# Altium footprint library 野火_EBF6ULL B1 核心板_PCB封装_AD格式.PcbLib: 18 footprints (part 2 of 2)
Each footprint in its own frame and in the unit in brackets; x right, y up, seen from the top. Pads: shape width x height; smd on the part's side, far side on the other; paste and mask are expansions set on the pad; w line width, h text height; cw(c..) or ccw(c..) is an arc to the next point about the centre after c.
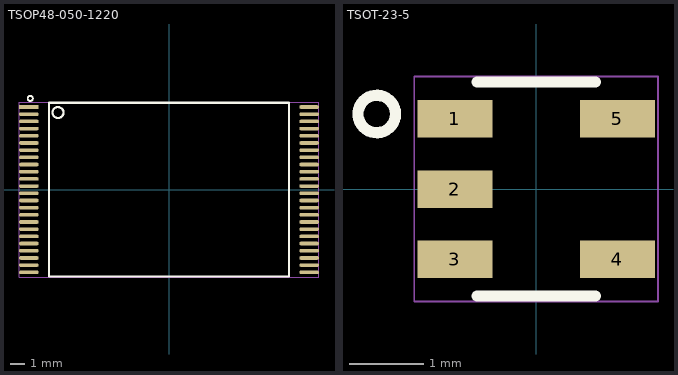
[diagram p1: the footprints below, top view; thin cyan lines are the x and y axes]

## TSOP48-050-1220 [mil]
pads (48):
  rect 54x10 smd mask+2: 1(-383.9,226.4)
  oval 54x10 smd mask+2: 2(-383.9,206.7) 3(-383.9,187) 4(-383.9,167.3) 5(-383.9,147.6) 6(-383.9,128) 7(-383.9,108.3) 8(-383.9,88.6) 9(-383.9,68.9) 10(-383.9,49.2) 11(-383.9,29.5) 12(-383.9,9.8) 13(-383.9,-9.8) 14(-383.9,-29.5) 15(-383.9,-49.2) 16(-383.9,-68.9) 17(-383.9,-88.6) 18(-383.9,-108.3) 19(-383.9,-128) 20(-383.9,-147.6) 21(-383.9,-167.3) 22(-383.9,-187) 23(-383.9,-206.7) 24(-383.9,-226.4) 25(383.9,-226.4) 26(383.9,-206.7) 27(383.9,-187) 28(383.9,-167.3) 29(383.9,-147.6) 30(383.9,-128) 31(383.9,-108.3) 32(383.9,-88.6) 33(383.9,-68.9) 34(383.9,-49.2) 35(383.9,-29.5) 36(383.9,-9.8) 37(383.9,9.8) 38(383.9,29.5) 39(383.9,49.2) 40(383.9,68.9) 41(383.9,88.6) 42(383.9,108.3) 43(383.9,128) 44(383.9,147.6) 45(383.9,167.3) 46(383.9,187) 47(383.9,206.7) 48(383.9,226.4)
Top Overlay:
  circle w6: c-303.86,211.38 r14.96
  circle w5: c-380,250 r7.1
  lines w6: -328.5,-238.2 328.7,-238.2 328.7,238.2 -328.5,238.2 -328.5,-238.2
Top Assembly:
  text "U5" at -40.23,-25 h50
Mechanical 16:
  lines w1: -410,-240 -410,240 410,240 410,-240 -410,-240

## TSOT-23-5 [mil]
height 39
pads (5):
  rect 40x20 smd mask+2.5: 1(-43.31,37.4) 2(-43.31,0) 3(-43.31,-37.4) 4(43.31,-37.4) 5(43.31,37.4)
Top Overlay:
  circle w6: c-85,40 r10
  lines w6: -31.5,-57.09 31.5,-57.09 -31.5,-57.09 ; -31.5,57.09 31.5,57.09 -31.5,57.09
Top Assembly:
  text "U7" at 40.23,25 h50
Mechanical 16:
  lines w1: -65,-60 -65,60 65,60 65,-60 -65,-60